# Altium footprint library adafruit.PCBLIB: 630 footprints (part 6 of 40)
Each footprint in its own frame and in the unit in brackets; x right, y up, seen from the top. Pads: shape width x height; smd on the part's side, far side on the other; paste and mask are expansions set on the pad; w line width, h text height; cw(c..) or ccw(c..) is an arc to the next point about the centre after c.
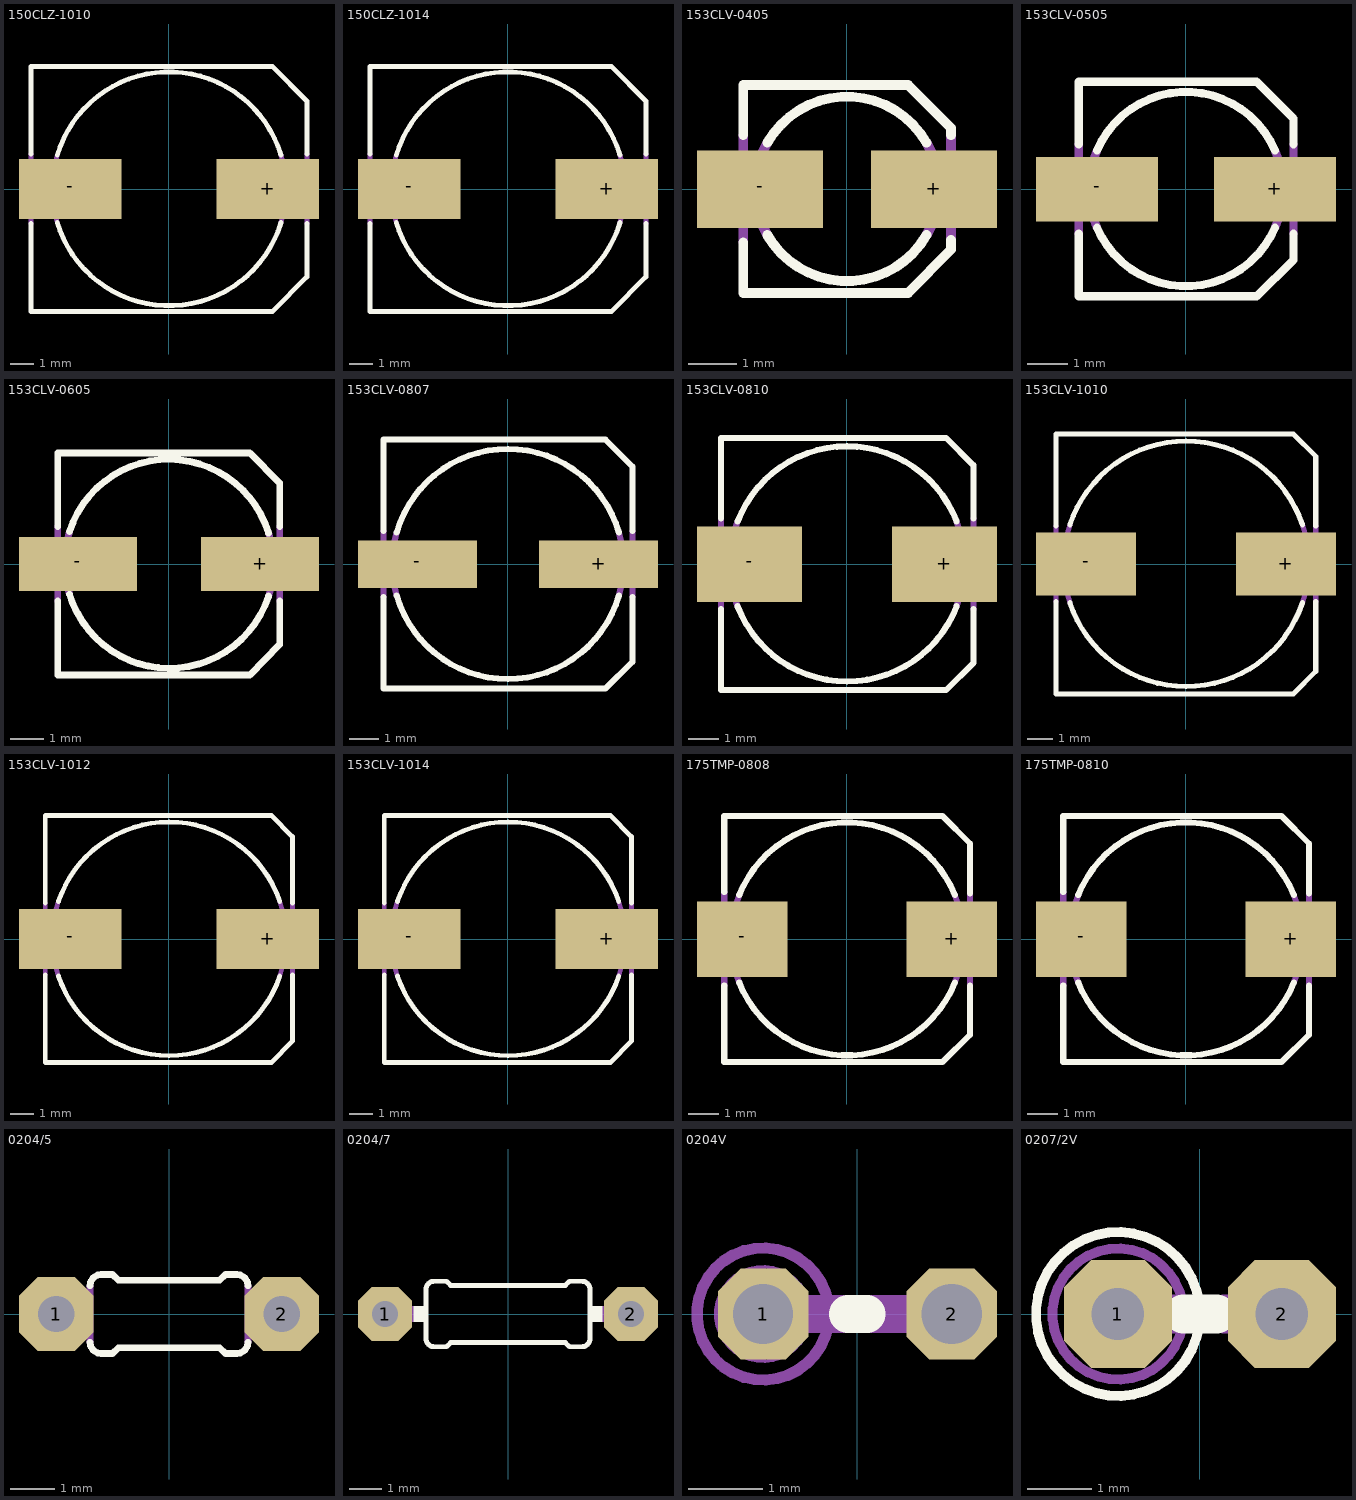
[diagram p5: the footprints below, top view; thin cyan lines are the x and y axes]

## 150CLZ-1010 [mil]
pads (2):
  rect 170x99 smd: +(164,0) -(-163.39,0)
Top Overlay:
  lines w8: -228.35,-57.09 -228.35,-202.76 172,-202.76 229,-145.67 229,-57.09 ; -228.35,58 -228.35,203 172,203 229,146 229,58 ; -185.04,-55.12 ccw(c0.48,0.14) 186,-55.12 ; -185.04,56 cw(c0.48,0.74) 186,56
Mechanical 16:
  lines w8: -228.35,-57.09 -228.35,58 ; -185.04,-55.12 cw(c1.48,0.44) -185.04,56 ; 186,-55.12 ccw(c-0.52,0.44) 186,56 ; 229,-57.09 229,58

## 150CLZ-1014 [mil]
pads (2):
  rect 170x99 smd: +(164,0) -(-163.39,0)
Top Overlay:
  lines w8: -228.35,-57.09 -228.35,-202.76 172,-202.76 229,-145.67 229,-57.09 ; -228.35,58 -228.35,203 172,203 229,146 229,58 ; -185.04,-55.12 ccw(c0.48,0.14) 186,-55.12 ; -185.04,56 cw(c0.48,0.74) 186,56
Mechanical 16:
  lines w8: -228.35,-57.09 -228.35,58 ; -185.04,-55.12 cw(c1.48,0.44) -185.04,56 ; 186,-55.12 ccw(c-0.52,0.44) 186,56 ; 229,-57.09 229,58

## 153CLV-0405 [mil]
pads (2):
  rect 103x63 smd: +(71,0) -(-70.87,0)
Top Overlay:
  lines w8: -84.65,-43.31 -84.65,-84.65 50,-84.65 85,-49.21 85,-41.34 ; -84.65,44 -84.65,85 50,85 85,50 85,44 ; -64.96,-37.4 ccw(c0.02,0.01) 65,-37.4 ; -64.96,38 cw(c0.02,0.59) 65,38
Mechanical 16:
  lines w8: -84.65,-43.31 -84.65,44 ; -64.96,-37.4 cw(c0.52,0.3) -64.96,38 ; 65,-37.4 ccw(c-0.48,0.3) 65,38 ; 85,-41.34 85,44

## 153CLV-0505 [mil]
pads (2):
  rect 119x63 smd: +(87,0) -(-86.61,0)
Top Overlay:
  lines w8: -104.33,-43.31 -104.33,-104.33 69,-104.33 105,-68.9 105,-43.31 ; -104.33,44 -104.33,105 69,105 105,69 105,44 ; -86.61,-37.4 ccw(c0.19,0.08) 87,-37.4 ; -86.61,38 cw(c0.19,0.52) 87,38
Mechanical 16:
  lines w8: -104.33,-43.31 -104.33,44 ; -86.61,-37.4 cw(c0.69,0.3) -86.61,38 ; 87,-37.4 ccw(c-0.31,0.3) 87,38 ; 105,-43.31 105,44

## 153CLV-0605 [mil]
pads (2):
  rect 138x63 smd: +(107,0) -(-106.3,0)
Top Overlay:
  lines w8: -129.92,-43.31 -129.92,-129.92 95,-129.92 130,-94.49 130,-43.31 ; -129.92,44 -129.92,130 95,130 130,95 130,44 ; -116.14,-35.43 ccw(c0.74,0.13) 117,-37.4 ; -116.14,38 cw(c0.12,0.45) 117,36
Mechanical 16:
  lines w8: -129.92,-43.31 -129.92,44 ; -116.14,-35.43 cw(c0.95,1.28) -116.14,38 ; 117,-37.4 ccw(c-0.05,-0.7) 117,36 ; 130,-43.31 130,44

## 153CLV-0807 [mil]
pads (2):
  rect 158x63 smd: +(121,0) -(-120.08,0)
Top Overlay:
  lines w8: -165.35,-43.31 -165.35,-165.35 130,-165.35 166,-129.92 166,-43.31 ; -165.35,44 -165.35,166 130,166 166,130 166,44 ; -147.64,-41.34 ccw(c0.18,1.04) 148,-41.34 ; -147.64,42 cw(c0.18,-0.37) 148,42
Mechanical 16:
  lines w8: -165.35,-43.31 -165.35,44 ; -147.64,-41.34 cw(c1.18,0.33) -147.64,42 ; 148,-41.34 ccw(c-0.82,0.33) 148,42 ; 166,-43.31 166,44

## 153CLV-0810 [mil]
pads (2):
  rect 138x99 smd: +(128,0) -(-127.95,0)
Top Overlay:
  lines w8: -165.35,-59.06 -165.35,-165.35 130,-165.35 166,-129.92 166,-59.06 ; -165.35,60 -165.35,166 130,166 166,130 166,60 ; -143.7,-55.12 ccw(c0.15,0.06) 144,-55.12 ; -143.7,56 cw(c0.15,0.82) 144,56
Mechanical 16:
  lines w8: -165.35,-59.06 -165.35,60 ; -143.7,-55.12 cw(c1.15,0.44) -143.7,56 ; 144,-55.12 ccw(c-0.85,0.44) 144,56 ; 166,-59.06 166,60

## 153CLV-1010 [mil]
pads (2):
  rect 158x99 smd: +(158,0) -(-157.48,0)
Top Overlay:
  lines w8: -204.72,-59.06 -204.72,-204.72 170,-204.72 205,-169.29 205,-59.06 ; -204.72,60 -204.72,205 170,205 205,170 205,60 ; -183.07,-61.02 ccw(c0.46,0.15) 184,-61.02 ; -183.07,62 cw(c0.46,0.82) 184,62
Mechanical 16:
  lines w8: -204.72,-59.06 -204.72,60 ; -183.07,-61.02 cw(c1.46,0.49) -183.07,62 ; 184,-61.02 ccw(c-0.54,0.49) 184,62 ; 205,-59.06 205,60

## 153CLV-1012 [mil]
pads (2):
  rect 170x99 smd: +(164,0) -(-163.39,0)
Top Overlay:
  lines w8: -204.72,-59.06 -204.72,-204.72 170,-204.72 205,-169.29 205,-59.06 ; -204.72,60 -204.72,205 170,205 205,170 205,60 ; -183.07,-61.02 ccw(c0.46,0.15) 184,-61.02 ; -183.07,62 cw(c0.46,0.82) 184,62
Mechanical 16:
  lines w8: -204.72,-59.06 -204.72,60 ; -183.07,-61.02 cw(c1.46,0.49) -183.07,62 ; 184,-61.02 ccw(c-0.54,0.49) 184,62 ; 205,-59.06 205,60

## 153CLV-1014 [mil]
pads (2):
  rect 170x99 smd: +(164,0) -(-163.39,0)
Top Overlay:
  lines w8: -204.72,-59.06 -204.72,-204.72 170,-204.72 205,-169.29 205,-59.06 ; -204.72,60 -204.72,205 170,205 205,170 205,60 ; -183.07,-61.02 ccw(c0.46,0.15) 184,-61.02 ; -183.07,62 cw(c0.46,0.82) 184,62
Mechanical 16:
  lines w8: -204.72,-59.06 -204.72,60 ; -183.07,-61.02 cw(c1.46,0.49) -183.07,62 ; 184,-61.02 ccw(c-0.54,0.49) 184,62 ; 205,-59.06 205,60

## 175TMP-0808 [mil]
pads (2):
  rect 119x99 smd: +(138,0) -(-137.8,0)
Top Overlay:
  lines w8: -161.42,-61.02 -161.42,-161.42 126,-161.42 162,-125.98 162,-61.02 ; -161.42,62 -161.42,162 126,162 162,126 162,60 ; -141.73,-57.09 ccw(c0.13,0.05) 142,-57.09 ; -141.73,58 cw(c0.13,0.86) 142,58
Mechanical 16:
  lines w8: -161.42,-61.02 -161.42,62 ; -141.73,-57.09 cw(c1.13,0.46) -141.73,58 ; 142,-57.09 ccw(c-0.87,0.46) 142,58 ; 162,-61.02 162,60

## 175TMP-0810 [mil]
pads (2):
  rect 119x99 smd: +(138,0) -(-137.8,0)
Top Overlay:
  lines w8: -161.42,-61.02 -161.42,-161.42 126,-161.42 162,-125.98 162,-61.02 ; -161.42,62 -161.42,162 126,162 162,126 162,60 ; -141.73,-57.09 ccw(c0.13,0.05) 142,-57.09 ; -141.73,58 cw(c0.13,0.86) 142,58
Mechanical 16:
  lines w8: -161.42,-61.02 -161.42,62 ; -141.73,-57.09 cw(c1.13,0.46) -141.73,58 ; 142,-57.09 ccw(c-0.87,0.46) 142,58 ; 162,-61.02 162,60

## 0204/5 [mil]
pads (2):
  oct 66x66 hole 32: 1(-100,0) 2(100,0)
Top Overlay:
  lines w6: -70,-25 ccw(c-60,-25) -60,-35 -50,-35 -45,-30 45,-30 50,-35 60,-35 ccw(c60,-25) 70,-25 ; -70,25 cw(c-60,25) -60,35 -50,35 -45,30 45,30 50,35 60,35 cw(c60,25) 70,25
Mechanical 16:
  rectangle: -80,-10 -70,10
  rectangle: 70,-10 80,10
  lines w6: -70,-25 -70,25 ; 70,-25 70,25
  lines w20: -100,0 -80,0 ; 80,0 100,0

## 0204/7 [mil]
pads (2):
  oct 66x66 hole 32: 1(-150,0) 2(150,0)
Top Overlay:
  rectangle: 100,-10 115,10
  rectangle: -115,-10 -100,10
  lines w6: -100,-30 ccw(c-90,-30) -90,-40 -75,-40 -70,-35 70,-35 75,-40 90,-40 ccw(c90,-30) 100,-30 100,30 ccw(c90,30) 90,40 75,40 70,35 -70,35 -75,40 -90,40 ccw(c-90,30) -100,30 -100,-30
Mechanical 16:
  lines w20: -150,0 -115,0 ; 115,0 150,0

## 0204V [mil]
pads (2):
  oct 48x48 hole 32: 1(-50,0) 2(50,0)
Top Overlay:
  lines w20: -5,0 5,0
Mechanical 16:
  circle w6: c-50,0 r35
  circle w2: c-50,0 r25
  lines w20: -50,0 50,0

## 0207/2V [mil]
pads (2):
  oct 66x66 hole 32: 1(-50,0) 2(50,0)
Top Overlay:
  circle w6: c-50,0 r50
  lines w24: -10,0 10,0
Mechanical 16:
  circle w6: c-50,0 r40
  lines w24: -50,0 -15,0 ; 15,0 50,0